# Altium integrated library WE-GDT_rev15a.intlib: 6 symbols
Pins are listed as number, name and electrical type; pins without a type are passive.

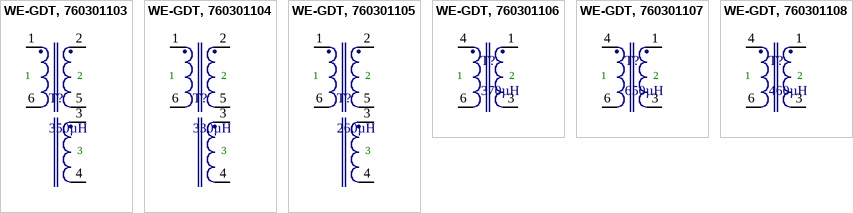
[diagram p0: symbols WE-GDT, 760301103 to WE-GDT, 760301108]

## WE-GDT, 760301103
designator T?, comment 350µH
Gate-Drive-Transformer WE-GDT , L=350µH; PartNo: 760301103; Manufacturer: Würth Elektronik eiSos GmbH; Turns Ratio: 2.5:1:1; Inductance: 350µH; ComponentLink1Description: Manufacturer; ComponentLink1URL: http://www.we-online.de; Created by: Otto Christin; Created Date: OCT 2013; ComponentLink2Description: Datasheet; ComponentLink2URL: http://www.we-online.de/katalog/media/pdf/760301103.pdf
footprint EP5 (SMD, 6-Leads, Body 7.0x6.0mm (max), Pitch 1.85mm, IPC Medium Density)
pins: 1, 2, 3, 4, 5, 6

## WE-GDT, 760301104
designator T?, comment 330µH
Gate-Drive-Transformer WE-GDT , L=330µH; PartNo: 760301104; Manufacturer: Würth Elektronik eiSos GmbH; Turns Ratio: 2:1:1; Inductance: 330µH; ComponentLink1Description: Manufacturer; ComponentLink1URL: http://www.we-online.de; Created by: Otto Christin; Created Date: OCT 2013; ComponentLink2Description: Datasheet; ComponentLink2URL: http://www.we-online.de/katalog/media/pdf/760301104.pdf
footprint EP5 (SMD, 6-Leads, Body 7.0x6.0mm (max), Pitch 1.85mm, IPC Medium Density)
pins: 1, 2, 3, 4, 5, 6

## WE-GDT, 760301105
designator T?, comment 260µH
Gate-Drive-Transformer WE-GDT , L=260µH; PartNo: 760301105; Manufacturer: Würth Elektronik eiSos GmbH; Turns Ratio: 1:1:1; Inductance: 260µH; ComponentLink1Description: Manufacturer; ComponentLink1URL: http://www.we-online.de; Created by: Otto Christin; Created Date: OCT 2013; ComponentLink2Description: Datasheet; ComponentLink2URL: http://www.we-online.de/katalog/media/pdf/760301105.pdf
footprint EP5 (SMD, 6-Leads, Body 7.0x6.0mm (max), Pitch 1.85mm, IPC Medium Density)
pins: 1, 2, 3, 4, 5, 6

## WE-GDT, 760301106
designator T?, comment 370µH
Gate-Drive-Transformer WE-GDT , L=370µH; PartNo: 760301106; Manufacturer: Würth Elektronik eiSos GmbH; Turns Ratio: 1:1; Inductance: 370µH; ComponentLink1Description: Manufacturer; ComponentLink1URL: http://www.we-online.de; Created by: Otto Christin; Created Date: OCT 2013; ComponentLink2Description: Datasheet; ComponentLink2URL: http://www.we-online.de/katalog/media/pdf/760301106.pdf
footprint EP5 (SMD, 6-Leads, Body 7.0x6.0mm (max), Pitch 1.85mm, IPC Medium Density)
pins: 1, 3, 4, 6
text: 2

## WE-GDT, 760301107
designator T?, comment 650µH
Gate-Drive-Transformer WE-GDT , L=650µH; PartNo: 760301107; Manufacturer: Würth Elektronik eiSos GmbH; Turns Ratio: 1.5:1; Inductance: 650µH; ComponentLink1Description: Manufacturer; ComponentLink1URL: http://www.we-online.de; Created by: Otto Christin; Created Date: OCT 2013; ComponentLink2Description: Datasheet; ComponentLink2URL: http://www.we-online.de/katalog/media/pdf/760301107.pdf
footprint EP5 (SMD, 6-Leads, Body 7.0x6.0mm (max), Pitch 1.85mm, IPC Medium Density)
pins: 1, 3, 4, 6
text: 2

## WE-GDT, 760301108
designator T?, comment 460µH
Gate-Drive-Transformer WE-GDT , L=460µH; PartNo: 760301108; Manufacturer: Würth Elektronik eiSos GmbH; Turns Ratio: 2.5:1; Inductance: 460µH; ComponentLink1Description: Manufacturer; ComponentLink1URL: http://www.we-online.de; Created by: Otto Christin; Created Date: OCT 2013; ComponentLink2Description: Datasheet; ComponentLink2URL: http://www.we-online.de/katalog/media/pdf/760301108.pdf
footprint EP5 (SMD, 6-Leads, Body 7.0x6.0mm (max), Pitch 1.85mm, IPC Medium Density)
pins: 1, 3, 4, 6
text: 2